# Altium footprint library Conectors.PcbLib: 38 footprints (part 3 of 3)
Each footprint in its own frame and in the unit in brackets; x right, y up, seen from the top. Pads: shape width x height; smd on the part's side, far side on the other; paste and mask are expansions set on the pad; w line width, h text height; cw(c..) or ccw(c..) is an arc to the next point about the centre after c.
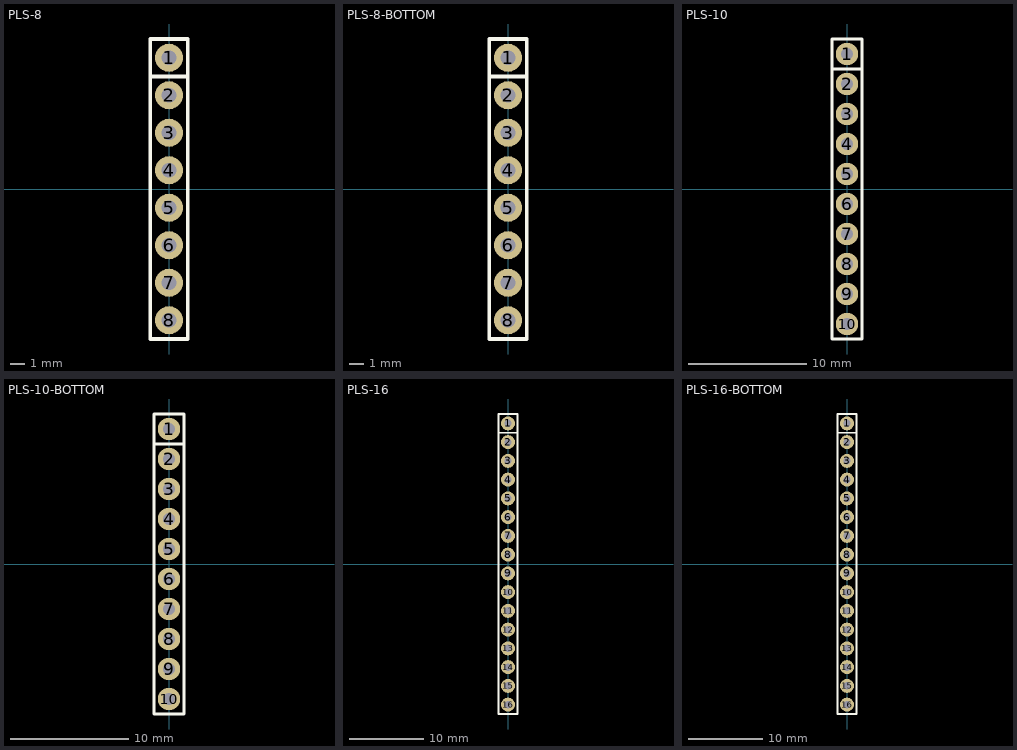
[diagram p2: the footprints below, top view; thin cyan lines are the x and y axes]

## PLS-8 [mm]
pads (8):
  round 1.9 hole 1: 1(0,8.89) 2(0,6.35) 3(0,3.81) 4(0,1.27) 5(0,-1.27) 6(0,-3.81) 7(0,-6.35) 8(0,-8.89)
Top Overlay:
  lines w0.25: -1.27,7.62 1.27,7.62 ; -1.27,-10.16 1.27,-10.16 1.27,10.16 -1.27,10.16 -1.27,-10.16
3D body "Connector-PLS-08.STEP": height 8.54, standoff -3, extent -1.27,-10.16 1.27,10.16

## PLS-8-BOTTOM [mm]
pads (8):
  round 1.9 hole 1: 1(0,8.89) 2(0,6.35) 3(0,3.81) 4(0,1.27) 5(0,-1.27) 6(0,-3.81) 7(0,-6.35) 8(0,-8.89)
Top Overlay:
  lines w0.25: -1.27,7.62 1.27,7.62 ; -1.27,-10.16 -1.27,10.16 1.27,10.16 1.27,-10.16 -1.27,-10.16
3D body "Connector-PLS-08.STEP": height 1.4, standoff -10.14, extent -1.27,-10.16 1.27,10.16

## PLS-10 [mm]
pads (10):
  round 1.9 hole 1: 1(0,11.43) 2(0,8.89) 3(0,6.35) 4(0,3.81) 5(0,1.27) 6(0,-1.27) 7(0,-3.81) 8(0,-6.35) 9(0,-8.89) 10(0,-11.43)
Top Overlay:
  lines w0.25: -1.27,10.16 1.27,10.16 ; -1.27,-12.7 -1.27,12.7 1.27,12.7 1.27,-12.7 -1.27,-12.7
3D body "Connector-PLS-10.STEP": height 8.54, standoff -3, extent -1.27,-12.7 1.27,12.7

## PLS-10-BOTTOM [mm]
pads (10):
  round 1.9 hole 1: 1(0,11.43) 2(0,8.89) 3(0,6.35) 4(0,3.81) 5(0,1.27) 6(0,-1.27) 7(0,-3.81) 8(0,-6.35) 9(0,-8.89) 10(0,-11.43)
Top Overlay:
  lines w0.25: -1.27,10.16 1.27,10.16 ; -1.27,-12.7 1.27,-12.7 1.27,12.7 -1.27,12.7 -1.27,-12.7
3D body "Connector-PLS-10.STEP": height 1.4, standoff -10.14, extent -1.27,-12.7 1.27,12.7

## PLS-16 [mm]
pads (16):
  round 1.9 hole 1: 1(0,19.05) 2(0,16.51) 3(0,13.97) 4(0,11.43) 5(0,8.89) 6(0,6.35) 7(0,3.81) 8(0,1.27) 9(0,-1.27) 10(0,-3.81) 11(0,-6.35) 12(0,-8.89) 13(0,-11.43) 14(0,-13.97) 15(0,-16.51) 16(0,-19.05)
Top Overlay:
  lines w0.25: -1.27,17.78 1.27,17.78 ; -1.27,-20.32 1.27,-20.32 1.27,20.32 -1.27,20.32 -1.27,-20.32
3D body "Connector-PLS-16.STEP": height 8.91, standoff -2.59, extent -1.27,-20.32 1.27,20.32

## PLS-16-BOTTOM [mm]
pads (16):
  round 1.9 hole 1: 1(0,19.05) 2(0,16.51) 3(0,13.97) 4(0,11.43) 5(0,8.89) 6(0,6.35) 7(0,3.81) 8(0,1.27) 9(0,-1.27) 10(0,-3.81) 11(0,-6.35) 12(0,-8.89) 13(0,-11.43) 14(0,-13.97) 15(0,-16.51) 16(0,-19.05)
Top Overlay:
  lines w0.25: -1.27,17.78 1.27,17.78 ; -1.27,-20.32 -1.27,20.32 1.27,20.32 1.27,-20.32 -1.27,-20.32
3D body "Connector-PLS-16.STEP": height 0.59, standoff -10.91, extent -1.27,-20.32 1.27,20.32